# Altium schematic symbol library SCH - MISC - CR1220 Battery.SCHLIB: 1 symbol
Pins are listed as number, name and electrical type; pins without a type are passive.

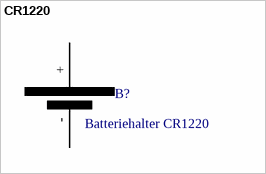
[diagram p0: symbol CR1220]

## CR1220
designator B?, comment Batteriehalter CR1220
footprint CR1220
pins: + (power), - (power)